# Altium integrated library Linear Technology PMIC-Switching Reg LT1074-LT8705.IntLib: 2252 symbols (part 3 of 124)
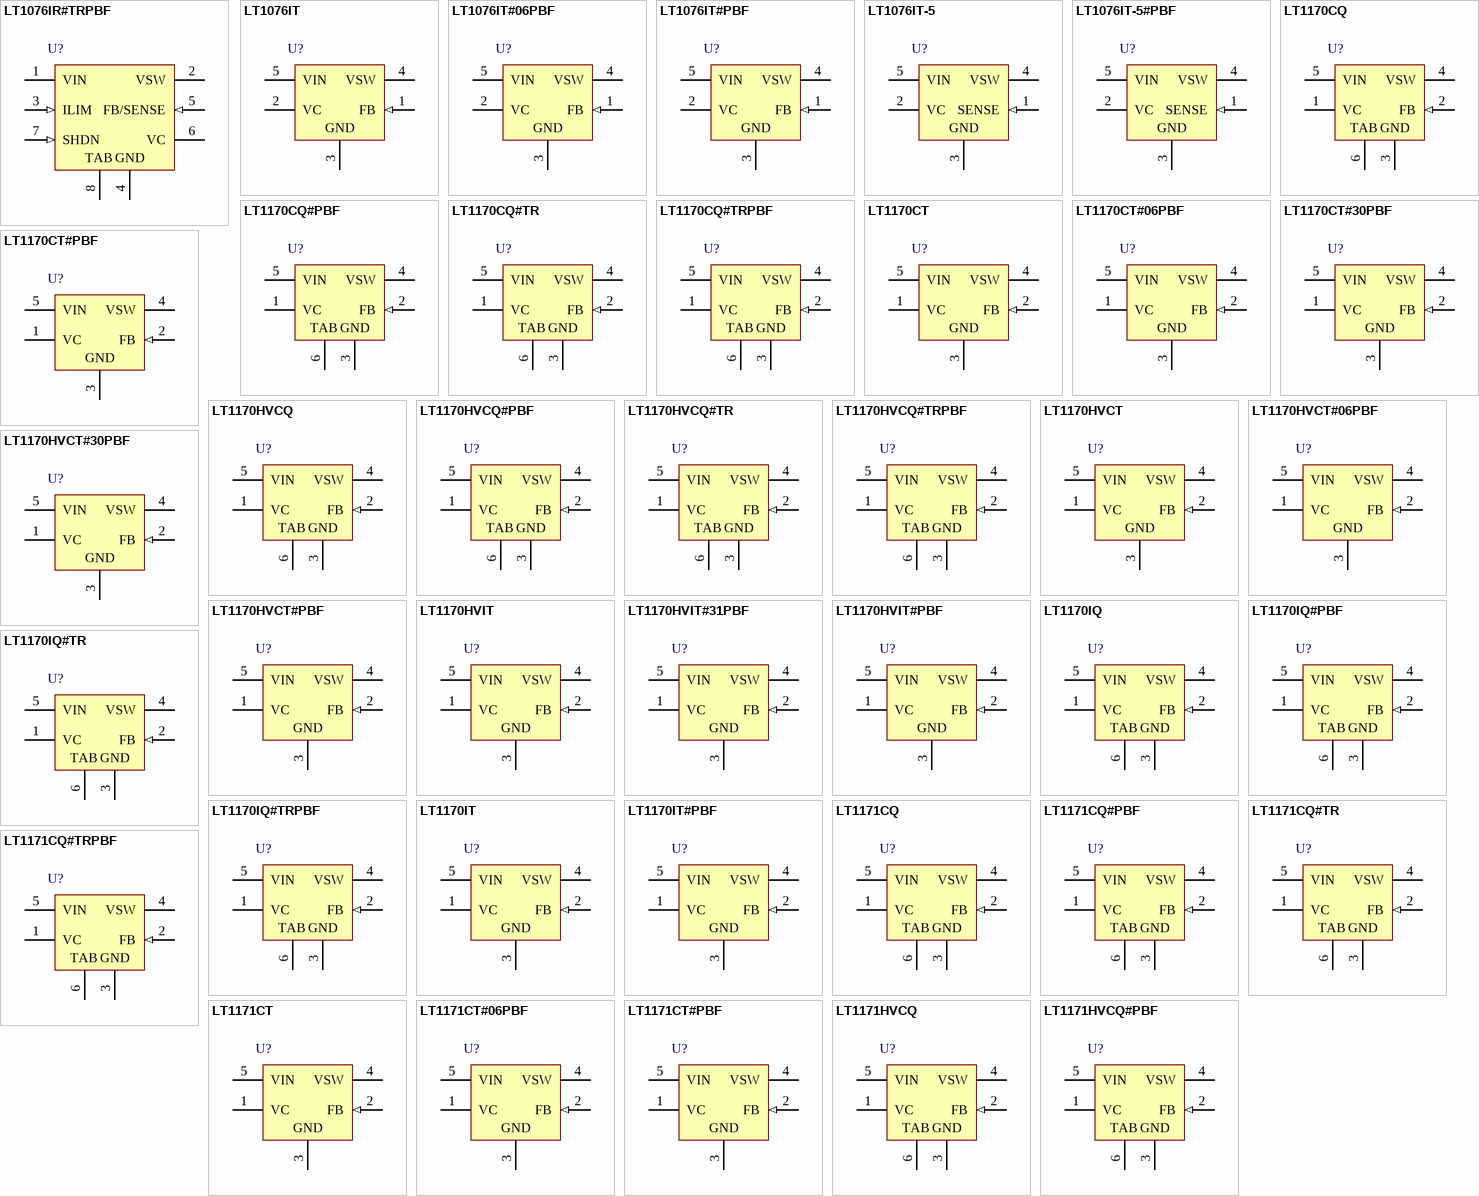
[diagram p73: symbols LT1076IR#TRPBF to LT1171HVCQ#PBF]

## LT1170CT#30PBF
designator U?
100 kHz, 5 A, High Efficiency Switching Regulator, 5-pin FM (T-5), 0 to 100 degC, Pb-Free; Manufacturer: Linear Technology; PartNumber: LT1170CT#30PBF; Number of Outputs: 1; PackageReference: T-5; PackageDescription: 5-Pin Plastic TO-220 (Standard), Body 10.224 x 8.89 mm, Pitch 1.7 mm; Supplier 1: Digi-Key; Supplier Part Number 1: LT1170CT#30PBF-ND; RoHS: TRUE
footprint LT-T-5-S (FM, 5-Leads, Body 10.55x4.6mm, Pitch 1.7mm)
pins: 1 VC, 2 FB (in), 3 GND (power), 4 VSW (power), 5 VIN (power)

## LT1170CT#PBF
designator U?
100 kHz, 5 A, High Efficiency Switching Regulator, 5-pin FM (T-5), 0 to 100 degC, Pb-Free; Manufacturer: Linear Technology; PartNumber: LT1170CT#PBF; Number of Outputs: 1; PackageReference: T-5; PackageDescription: 5-Pin Plastic TO-220 (Standard), Body 10.224 x 8.89 mm, Pitch 1.7 mm; Supplier 1: Digi-Key; Supplier Part Number 1: LT1170CT#PBF-ND; RoHS: TRUE
footprint LT-T-5-S (FM, 5-Leads, Body 10.55x4.6mm, Pitch 1.7mm)
pins: 1 VC, 2 FB (in), 3 GND (power), 4 VSW (power), 5 VIN (power)

## LT1170HVCQ
designator U?
100 kHz, 5 A, High Efficiency Switching Regulator, 5-pin DPAK (Q-5), 0 to 100 degC; Manufacturer: Linear Technology; PartNumber: LT1170HVCQ; Number of Outputs: 1; PackageReference: Q-5; PackageDescription: 5-Pin Plastic DD Pak, Body 10.2235 x 8.89 mm, Pitch 1.702 mm; Supplier 1: Digi-Key; Supplier Part Number 1: LT1170HVCQ-ND; RoHS: FALSE
footprint LT-Q-5_N (DPAK, 5-Leads, Body 10.22x8.89mm, Pitch 1.702mm, IPC Medium Density)
footprint LT-Q-5_L (DPAK, 5-Leads, Body 10.22x8.89mm, Pitch 1.702mm, IPC High Density)
footprint LT-Q-5_M (DPAK, 5-Leads, Body 10.22x8.89mm, Pitch 1.702mm, IPC Low Density)
pins: 1 VC, 2 FB (in), 3 GND (power), 4 VSW (power), 5 VIN (power), 6 TAB

## LT1170HVCQ#PBF
designator U?
100 kHz, 5 A, High Efficiency Switching Regulator, 5-pin DPAK (Q-5), 0 to 100 degC, Pb-Free; Manufacturer: Linear Technology; PartNumber: LT1170HVCQ#PBF; Number of Outputs: 1; PackageReference: Q-5; PackageDescription: 5-Pin Plastic DD Pak, Body 10.2235 x 8.89 mm, Pitch 1.702 mm; Supplier 1: Digi-Key; Supplier Part Number 1: LT1170HVCQ#PBF-ND; RoHS: TRUE
footprint LT-Q-5_N (DPAK, 5-Leads, Body 10.22x8.89mm, Pitch 1.702mm, IPC Medium Density)
footprint LT-Q-5_L (DPAK, 5-Leads, Body 10.22x8.89mm, Pitch 1.702mm, IPC High Density)
footprint LT-Q-5_M (DPAK, 5-Leads, Body 10.22x8.89mm, Pitch 1.702mm, IPC Low Density)
pins: 1 VC, 2 FB (in), 3 GND (power), 4 VSW (power), 5 VIN (power), 6 TAB

## LT1170HVCQ#TR
designator U?
100 kHz, 5 A, High Efficiency Switching Regulator, 5-pin DPAK (Q-5), 0 to 100 degC, Tape and Reel; Manufacturer: Linear Technology; PartNumber: LT1170HVCQ#TR; Number of Outputs: 1; PackageReference: Q-5; PackageDescription: 5-Pin Plastic DD Pak, Body 10.2235 x 8.89 mm, Pitch 1.702 mm; Supplier 1: Digi-Key; Supplier Part Number 1: LT1170HVCQTR-ND; RoHS: FALSE
footprint LT-Q-5_N (DPAK, 5-Leads, Body 10.22x8.89mm, Pitch 1.702mm, IPC Medium Density)
footprint LT-Q-5_L (DPAK, 5-Leads, Body 10.22x8.89mm, Pitch 1.702mm, IPC High Density)
footprint LT-Q-5_M (DPAK, 5-Leads, Body 10.22x8.89mm, Pitch 1.702mm, IPC Low Density)
pins: 1 VC, 2 FB (in), 3 GND (power), 4 VSW (power), 5 VIN (power), 6 TAB

## LT1170HVCQ#TRPBF
designator U?
100 kHz, 5 A, High Efficiency Switching Regulator, 5-pin DPAK (Q-5), 0 to 100 degC, Pb-Free, Tape and Reel; Manufacturer: Linear Technology; PartNumber: LT1170HVCQ#TRPBF; Number of Outputs: 1; PackageReference: Q-5; PackageDescription: 5-Pin Plastic DD Pak, Body 10.2235 x 8.89 mm, Pitch 1.702 mm; Supplier 1: Digi-Key; Supplier Part Number 1: LT1170HVCQ#TRPBF-ND; RoHS: TRUE
footprint LT-Q-5_N (DPAK, 5-Leads, Body 10.22x8.89mm, Pitch 1.702mm, IPC Medium Density)
footprint LT-Q-5_L (DPAK, 5-Leads, Body 10.22x8.89mm, Pitch 1.702mm, IPC High Density)
footprint LT-Q-5_M (DPAK, 5-Leads, Body 10.22x8.89mm, Pitch 1.702mm, IPC Low Density)
pins: 1 VC, 2 FB (in), 3 GND (power), 4 VSW (power), 5 VIN (power), 6 TAB

## LT1170HVCT
designator U?
100 kHz, 5 A, High Efficiency Switching Regulator, 5-pin FM (T-5), 0 to 100 degC; Manufacturer: Linear Technology; PartNumber: LT1170HVCT; Number of Outputs: 1; PackageReference: T-5; PackageDescription: 5-Pin Plastic TO-220 (Standard), Body 10.224 x 8.89 mm, Pitch 1.7 mm; Supplier 1: Digi-Key; Supplier Part Number 1: LT1170HVCT-ND; RoHS: FALSE
footprint LT-T-5-S (FM, 5-Leads, Body 10.55x4.6mm, Pitch 1.7mm)
pins: 1 VC, 2 FB (in), 3 GND (power), 4 VSW (power), 5 VIN (power)

## LT1170HVCT#06PBF
designator U?
100 kHz, 5 A, High Efficiency Switching Regulator, 5-pin FM (T-5), 0 to 100 degC, Pb-Free; Manufacturer: Linear Technology; PartNumber: LT1170HVCT#06PBF; Number of Outputs: 1; PackageReference: T-5; PackageDescription: 5-Pin Plastic TO-220 (Standard), Body 10.224 x 8.89 mm, Pitch 1.7 mm; Supplier 1: Digi-Key; Supplier Part Number 1: LT1170HVCT#06PBF-ND; RoHS: TRUE
footprint LT-T-5-S (FM, 5-Leads, Body 10.55x4.6mm, Pitch 1.7mm)
pins: 1 VC, 2 FB (in), 3 GND (power), 4 VSW (power), 5 VIN (power)

## LT1170HVCT#30PBF
designator U?
100 kHz, 5 A, High Efficiency Switching Regulator, 5-pin FM (T-5), 0 to 100 degC, Pb-Free; Manufacturer: Linear Technology; PartNumber: LT1170HVCT#30PBF; Number of Outputs: 1; PackageReference: T-5; PackageDescription: 5-Pin Plastic TO-220 (Standard), Body 10.224 x 8.89 mm, Pitch 1.7 mm; Supplier 1: Digi-Key; Supplier Part Number 1: LT1170HVCT#30PBF-ND; RoHS: TRUE
footprint LT-T-5-S (FM, 5-Leads, Body 10.55x4.6mm, Pitch 1.7mm)
pins: 1 VC, 2 FB (in), 3 GND (power), 4 VSW (power), 5 VIN (power)

## LT1170HVCT#PBF
designator U?
100 kHz, 5 A, High Efficiency Switching Regulator, 5-pin FM (T-5), 0 to 100 degC, Pb-Free; Manufacturer: Linear Technology; PartNumber: LT1170HVCT#PBF; Number of Outputs: 1; PackageReference: T-5; PackageDescription: 5-Pin Plastic TO-220 (Standard), Body 10.224 x 8.89 mm, Pitch 1.7 mm; Supplier 1: Digi-Key; Supplier Part Number 1: LT1170HVCT#PBF-ND; RoHS: TRUE
footprint LT-T-5-S (FM, 5-Leads, Body 10.55x4.6mm, Pitch 1.7mm)
pins: 1 VC, 2 FB (in), 3 GND (power), 4 VSW (power), 5 VIN (power)

## LT1170HVIT
designator U?
100 kHz, 5 A, High Efficiency Switching Regulator, 5-pin FM (T-5), -40 to 100 degC; Manufacturer: Linear Technology; PartNumber: LT1170HVIT; Number of Outputs: 1; PackageReference: T-5; PackageDescription: 5-Pin Plastic TO-220 (Standard), Body 10.224 x 8.89 mm, Pitch 1.7 mm; Supplier 1: Digi-Key; Supplier Part Number 1: LT1170HVIT-ND; RoHS: FALSE
footprint LT-T-5-S (FM, 5-Leads, Body 10.55x4.6mm, Pitch 1.7mm)
pins: 1 VC, 2 FB (in), 3 GND (power), 4 VSW (power), 5 VIN (power)

## LT1170HVIT#31PBF
designator U?
100 kHz, 5 A, High Efficiency Switching Regulator, 5-pin FM (T-5), -40 to 100 degC, Pb-Free; Manufacturer: Linear Technology; PartNumber: LT1170HVIT#31PBF; Number of Outputs: 1; PackageReference: T-5; PackageDescription: 5-Pin Plastic TO-220 (Standard), Body 10.224 x 8.89 mm, Pitch 1.7 mm; Supplier 1: Digi-Key; Supplier Part Number 1: LT1170HVIT#31PBF-ND; RoHS: TRUE
footprint LT-T-5-S (FM, 5-Leads, Body 10.55x4.6mm, Pitch 1.7mm)
pins: 1 VC, 2 FB (in), 3 GND (power), 4 VSW (power), 5 VIN (power)

## LT1170HVIT#PBF
designator U?
100 kHz, 5 A, High Efficiency Switching Regulator, 5-pin FM (T-5), -40 to 100 degC, Pb-Free; Manufacturer: Linear Technology; PartNumber: LT1170HVIT#PBF; Number of Outputs: 1; PackageReference: T-5; PackageDescription: 5-Pin Plastic TO-220 (Standard), Body 10.224 x 8.89 mm, Pitch 1.7 mm; Supplier 1: Digi-Key; Supplier Part Number 1: LT1170HVIT#PBF-ND; RoHS: TRUE
footprint LT-T-5-S (FM, 5-Leads, Body 10.55x4.6mm, Pitch 1.7mm)
pins: 1 VC, 2 FB (in), 3 GND (power), 4 VSW (power), 5 VIN (power)

## LT1170IQ
designator U?
100 kHz, 5 A, High Efficiency Switching Regulator, 5-pin DPAK (Q-5), -40 to 100 degC; Manufacturer: Linear Technology; PartNumber: LT1170IQ; Number of Outputs: 1; PackageReference: Q-5; PackageDescription: 5-Pin Plastic DD Pak, Body 10.2235 x 8.89 mm, Pitch 1.702 mm; Supplier 1: Digi-Key; Supplier Part Number 1: LT1170IQ-ND; RoHS: FALSE
footprint LT-Q-5_N (DPAK, 5-Leads, Body 10.22x8.89mm, Pitch 1.702mm, IPC Medium Density)
footprint LT-Q-5_L (DPAK, 5-Leads, Body 10.22x8.89mm, Pitch 1.702mm, IPC High Density)
footprint LT-Q-5_M (DPAK, 5-Leads, Body 10.22x8.89mm, Pitch 1.702mm, IPC Low Density)
pins: 1 VC, 2 FB (in), 3 GND (power), 4 VSW (power), 5 VIN (power), 6 TAB

## LT1170IQ#PBF
designator U?
100 kHz, 5 A, High Efficiency Switching Regulator, 5-pin DPAK (Q-5), -40 to 100 degC, Pb-Free; Manufacturer: Linear Technology; PartNumber: LT1170IQ#PBF; Number of Outputs: 1; PackageReference: Q-5; PackageDescription: 5-Pin Plastic DD Pak, Body 10.2235 x 8.89 mm, Pitch 1.702 mm; Supplier 1: Digi-Key; Supplier Part Number 1: LT1170IQ#PBF-ND; RoHS: TRUE
footprint LT-Q-5_N (DPAK, 5-Leads, Body 10.22x8.89mm, Pitch 1.702mm, IPC Medium Density)
footprint LT-Q-5_L (DPAK, 5-Leads, Body 10.22x8.89mm, Pitch 1.702mm, IPC High Density)
footprint LT-Q-5_M (DPAK, 5-Leads, Body 10.22x8.89mm, Pitch 1.702mm, IPC Low Density)
pins: 1 VC, 2 FB (in), 3 GND (power), 4 VSW (power), 5 VIN (power), 6 TAB

## LT1170IQ#TR
designator U?
100 kHz, 5 A, High Efficiency Switching Regulator, 5-pin DPAK (Q-5), -40 to 100 degC, Tape and Reel; Manufacturer: Linear Technology; PartNumber: LT1170IQ#TR; Number of Outputs: 1; PackageReference: Q-5; PackageDescription: 5-Pin Plastic DD Pak, Body 10.2235 x 8.89 mm, Pitch 1.702 mm; Supplier 1: Digi-Key; Supplier Part Number 1: LT1170IQ#TR-ND; RoHS: FALSE
footprint LT-Q-5_N (DPAK, 5-Leads, Body 10.22x8.89mm, Pitch 1.702mm, IPC Medium Density)
footprint LT-Q-5_L (DPAK, 5-Leads, Body 10.22x8.89mm, Pitch 1.702mm, IPC High Density)
footprint LT-Q-5_M (DPAK, 5-Leads, Body 10.22x8.89mm, Pitch 1.702mm, IPC Low Density)
pins: 1 VC, 2 FB (in), 3 GND (power), 4 VSW (power), 5 VIN (power), 6 TAB

## LT1170IQ#TRPBF
designator U?
100 kHz, 5 A, High Efficiency Switching Regulator, 5-pin DPAK (Q-5), -40 to 100 degC, Pb-Free, Tape and Reel; Manufacturer: Linear Technology; PartNumber: LT1170IQ#TRPBF; Number of Outputs: 1; PackageReference: Q-5; PackageDescription: 5-Pin Plastic DD Pak, Body 10.2235 x 8.89 mm, Pitch 1.702 mm; Supplier 1: Digi-Key; Supplier Part Number 1: LT1170IQ#TRPBF-ND; RoHS: TRUE
footprint LT-Q-5_N (DPAK, 5-Leads, Body 10.22x8.89mm, Pitch 1.702mm, IPC Medium Density)
footprint LT-Q-5_L (DPAK, 5-Leads, Body 10.22x8.89mm, Pitch 1.702mm, IPC High Density)
footprint LT-Q-5_M (DPAK, 5-Leads, Body 10.22x8.89mm, Pitch 1.702mm, IPC Low Density)
pins: 1 VC, 2 FB (in), 3 GND (power), 4 VSW (power), 5 VIN (power), 6 TAB

## LT1170IT
designator U?
100 kHz, 5 A, High Efficiency Switching Regulator, 5-pin FM (T-5), -40 to 100 degC; Manufacturer: Linear Technology; PartNumber: LT1170IT; Number of Outputs: 1; PackageReference: T-5; PackageDescription: 5-Pin Plastic TO-220 (Standard), Body 10.224 x 8.89 mm, Pitch 1.7 mm; Supplier 1: Digi-Key; Supplier Part Number 1: LT1170IT-ND; RoHS: FALSE
footprint LT-T-5-S (FM, 5-Leads, Body 10.55x4.6mm, Pitch 1.7mm)
pins: 1 VC, 2 FB (in), 3 GND (power), 4 VSW (power), 5 VIN (power)

## LT1170IT#PBF
designator U?
100 kHz, 5 A, High Efficiency Switching Regulator, 5-pin FM (T-5), -40 to 100 degC, Pb-Free; Manufacturer: Linear Technology; PartNumber: LT1170IT#PBF; Number of Outputs: 1; PackageReference: T-5; PackageDescription: 5-Pin Plastic TO-220 (Standard), Body 10.224 x 8.89 mm, Pitch 1.7 mm; Supplier 1: Digi-Key; Supplier Part Number 1: LT1170IT#PBF-ND; RoHS: TRUE
footprint LT-T-5-S (FM, 5-Leads, Body 10.55x4.6mm, Pitch 1.7mm)
pins: 1 VC, 2 FB (in), 3 GND (power), 4 VSW (power), 5 VIN (power)

## LT1171CQ
designator U?
100 kHz, 2.5 A, High Efficiency Switching Regulator, 5-pin DPAK (Q-5), 0 to 100 degC; Manufacturer: Linear Technology; PartNumber: LT1171CQ; Number of Outputs: 1; PackageReference: Q-5; PackageDescription: 5-Pin Plastic DD Pak, Body 10.2235 x 8.89 mm, Pitch 1.702 mm; Supplier 1: Digi-Key; Supplier Part Number 1: LT1171CQ-ND; RoHS: FALSE
footprint LT-Q-5_N (DPAK, 5-Leads, Body 10.22x8.89mm, Pitch 1.702mm, IPC Medium Density)
footprint LT-Q-5_L (DPAK, 5-Leads, Body 10.22x8.89mm, Pitch 1.702mm, IPC High Density)
footprint LT-Q-5_M (DPAK, 5-Leads, Body 10.22x8.89mm, Pitch 1.702mm, IPC Low Density)
pins: 1 VC, 2 FB (in), 3 GND (power), 4 VSW (power), 5 VIN (power), 6 TAB

## LT1171CQ#PBF
designator U?
100 kHz, 2.5 A, High Efficiency Switching Regulator, 5-pin DPAK (Q-5), 0 to 100 degC, Pb-Free; Manufacturer: Linear Technology; PartNumber: LT1171CQ#PBF; Number of Outputs: 1; PackageReference: Q-5; PackageDescription: 5-Pin Plastic DD Pak, Body 10.2235 x 8.89 mm, Pitch 1.702 mm; Supplier 1: Digi-Key; Supplier Part Number 1: LT1171CQ#PBF-ND; RoHS: TRUE
footprint LT-Q-5_N (DPAK, 5-Leads, Body 10.22x8.89mm, Pitch 1.702mm, IPC Medium Density)
footprint LT-Q-5_L (DPAK, 5-Leads, Body 10.22x8.89mm, Pitch 1.702mm, IPC High Density)
footprint LT-Q-5_M (DPAK, 5-Leads, Body 10.22x8.89mm, Pitch 1.702mm, IPC Low Density)
pins: 1 VC, 2 FB (in), 3 GND (power), 4 VSW (power), 5 VIN (power), 6 TAB

## LT1171CQ#TR
designator U?
100 kHz, 2.5 A, High Efficiency Switching Regulator, 5-pin DPAK (Q-5), 0 to 100 degC, Tape and Reel; Manufacturer: Linear Technology; PartNumber: LT1171CQ#TR; Number of Outputs: 1; PackageReference: Q-5; PackageDescription: 5-Pin Plastic DD Pak, Body 10.2235 x 8.89 mm, Pitch 1.702 mm; Supplier 1: Digi-Key; Supplier Part Number 1: LT1171CQ#TR-ND; RoHS: FALSE
footprint LT-Q-5_N (DPAK, 5-Leads, Body 10.22x8.89mm, Pitch 1.702mm, IPC Medium Density)
footprint LT-Q-5_L (DPAK, 5-Leads, Body 10.22x8.89mm, Pitch 1.702mm, IPC High Density)
footprint LT-Q-5_M (DPAK, 5-Leads, Body 10.22x8.89mm, Pitch 1.702mm, IPC Low Density)
pins: 1 VC, 2 FB (in), 3 GND (power), 4 VSW (power), 5 VIN (power), 6 TAB

## LT1171CQ#TRPBF
designator U?
100 kHz, 2.5 A, High Efficiency Switching Regulator, 5-pin DPAK (Q-5), 0 to 100 degC, Pb-Free, Tape and Reel; Manufacturer: Linear Technology; PartNumber: LT1171CQ#TRPBF; Number of Outputs: 1; PackageReference: Q-5; PackageDescription: 5-Pin Plastic DD Pak, Body 10.2235 x 8.89 mm, Pitch 1.702 mm; Supplier 1: Digi-Key; Supplier Part Number 1: LT1171CQ#TRPBF-ND; RoHS: TRUE
footprint LT-Q-5_N (DPAK, 5-Leads, Body 10.22x8.89mm, Pitch 1.702mm, IPC Medium Density)
footprint LT-Q-5_L (DPAK, 5-Leads, Body 10.22x8.89mm, Pitch 1.702mm, IPC High Density)
footprint LT-Q-5_M (DPAK, 5-Leads, Body 10.22x8.89mm, Pitch 1.702mm, IPC Low Density)
pins: 1 VC, 2 FB (in), 3 GND (power), 4 VSW (power), 5 VIN (power), 6 TAB

## LT1171CT
designator U?
100 kHz, 2.5 A, High Efficiency Switching Regulator, 5-pin FM (T-5), 0 to 100 degC; Manufacturer: Linear Technology; PartNumber: LT1171CT; Number of Outputs: 1; PackageReference: T-5; PackageDescription: 5-Pin Plastic TO-220 (Standard), Body 10.224 x 8.89 mm, Pitch 1.7 mm; Supplier 1: Digi-Key; Supplier Part Number 1: LT1171CT-ND; RoHS: FALSE
footprint LT-T-5-S (FM, 5-Leads, Body 10.55x4.6mm, Pitch 1.7mm)
pins: 1 VC, 2 FB (in), 3 GND (power), 4 VSW (power), 5 VIN (power)

## LT1171CT#06PBF
designator U?
100 kHz, 2.5 A, High Efficiency Switching Regulator, 5-pin FM (T-5), 0 to 100 degC, Pb-Free; Manufacturer: Linear Technology; PartNumber: LT1171CT#06PBF; Number of Outputs: 1; PackageReference: T-5; PackageDescription: 5-Pin Plastic TO-220 (Standard), Body 10.224 x 8.89 mm, Pitch 1.7 mm; Supplier 1: Digi-Key; Supplier Part Number 1: LT1171CT#06PBF-ND; RoHS: TRUE
footprint LT-T-5-S (FM, 5-Leads, Body 10.55x4.6mm, Pitch 1.7mm)
pins: 1 VC, 2 FB (in), 3 GND (power), 4 VSW (power), 5 VIN (power)

## LT1171CT#PBF
designator U?
100 kHz, 2.5 A, High Efficiency Switching Regulator, 5-pin FM (T-5), 0 to 100 degC, Pb-Free; Manufacturer: Linear Technology; PartNumber: LT1171CT#PBF; Number of Outputs: 1; PackageReference: T-5; PackageDescription: 5-Pin Plastic TO-220 (Standard), Body 10.224 x 8.89 mm, Pitch 1.7 mm; Supplier 1: Digi-Key; Supplier Part Number 1: LT1171CT#PBF-ND; RoHS: TRUE
footprint LT-T-5-S (FM, 5-Leads, Body 10.55x4.6mm, Pitch 1.7mm)
pins: 1 VC, 2 FB (in), 3 GND (power), 4 VSW (power), 5 VIN (power)

## LT1171HVCQ
designator U?
100 kHz, 2.5 A, High Efficiency Switching Regulator, 5-pin DPAK (Q-5), 0 to 100 degC; Manufacturer: Linear Technology; PartNumber: LT1171HVCQ; Number of Outputs: 1; PackageReference: Q-5; PackageDescription: 5-Pin Plastic DD Pak, Body 10.2235 x 8.89 mm, Pitch 1.702 mm; Supplier 1: Digi-Key; Supplier Part Number 1: LT1171HVCQ-ND; RoHS: FALSE
footprint LT-Q-5_N (DPAK, 5-Leads, Body 10.22x8.89mm, Pitch 1.702mm, IPC Medium Density)
footprint LT-Q-5_L (DPAK, 5-Leads, Body 10.22x8.89mm, Pitch 1.702mm, IPC High Density)
footprint LT-Q-5_M (DPAK, 5-Leads, Body 10.22x8.89mm, Pitch 1.702mm, IPC Low Density)
pins: 1 VC, 2 FB (in), 3 GND (power), 4 VSW (power), 5 VIN (power), 6 TAB

## LT1171HVCQ#PBF
designator U?
100 kHz, 2.5 A, High Efficiency Switching Regulator, 5-pin DPAK (Q-5), 0 to 100 degC, Pb-Free; Manufacturer: Linear Technology; PartNumber: LT1171HVCQ#PBF; Number of Outputs: 1; PackageReference: Q-5; PackageDescription: 5-Pin Plastic DD Pak, Body 10.2235 x 8.89 mm, Pitch 1.702 mm; Supplier 1: Digi-Key; Supplier Part Number 1: LT1171HVCQ#PBF-ND; RoHS: TRUE
footprint LT-Q-5_N (DPAK, 5-Leads, Body 10.22x8.89mm, Pitch 1.702mm, IPC Medium Density)
footprint LT-Q-5_L (DPAK, 5-Leads, Body 10.22x8.89mm, Pitch 1.702mm, IPC High Density)
footprint LT-Q-5_M (DPAK, 5-Leads, Body 10.22x8.89mm, Pitch 1.702mm, IPC Low Density)
pins: 1 VC, 2 FB (in), 3 GND (power), 4 VSW (power), 5 VIN (power), 6 TAB

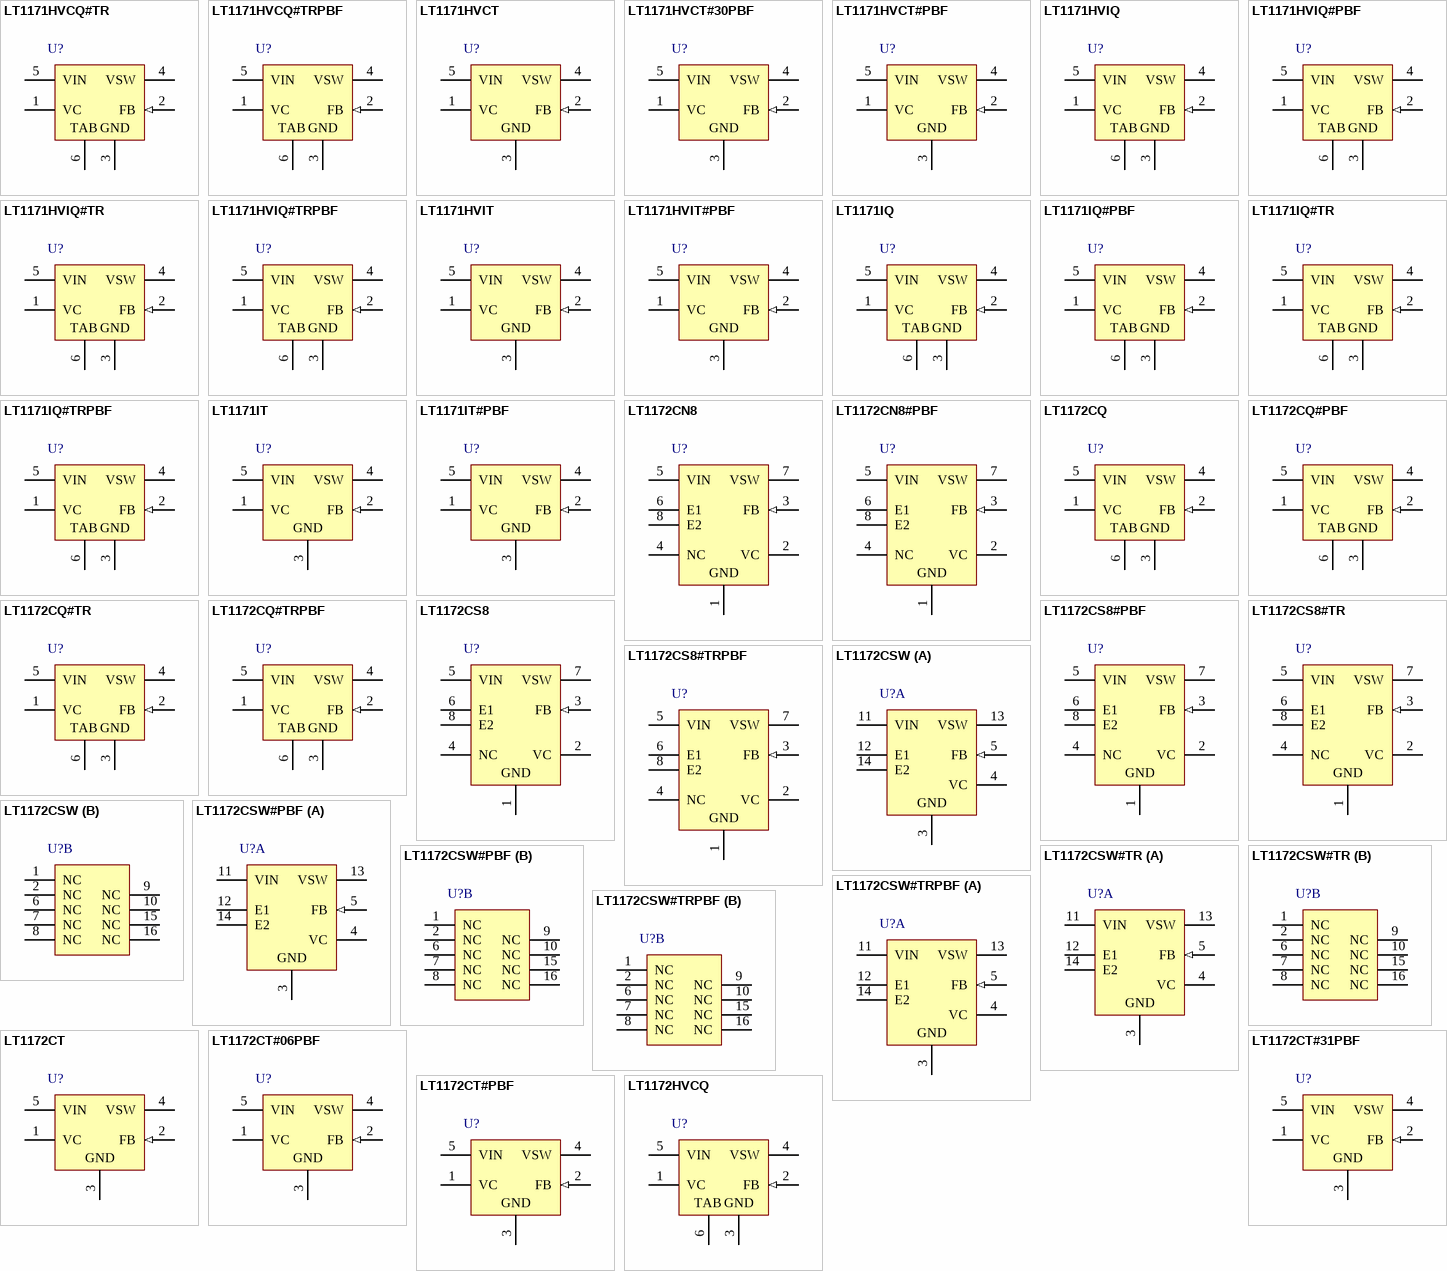
[diagram p3: symbols LT1171HVCQ#TR to LT1172HVCQ]

## LT1171HVCQ#TR
designator U?
100 kHz, 2.5 A, High Efficiency Switching Regulator, 5-pin DPAK (Q-5), 0 to 100 degC, Tape and Reel; Manufacturer: Linear Technology; PartNumber: LT1171HVCQ#TR; Number of Outputs: 1; PackageReference: Q-5; PackageDescription: 5-Pin Plastic DD Pak, Body 10.2235 x 8.89 mm, Pitch 1.702 mm; Supplier 1: Digi-Key; Supplier Part Number 1: LT1171HVCQ#TR-ND; RoHS: FALSE
footprint LT-Q-5_N (DPAK, 5-Leads, Body 10.22x8.89mm, Pitch 1.702mm, IPC Medium Density)
footprint LT-Q-5_L (DPAK, 5-Leads, Body 10.22x8.89mm, Pitch 1.702mm, IPC High Density)
footprint LT-Q-5_M (DPAK, 5-Leads, Body 10.22x8.89mm, Pitch 1.702mm, IPC Low Density)
pins: 1 VC, 2 FB (in), 3 GND (power), 4 VSW (power), 5 VIN (power), 6 TAB

## LT1171HVCQ#TRPBF
designator U?
100 kHz, 2.5 A, High Efficiency Switching Regulator, 5-pin DPAK (Q-5), 0 to 100 degC, Pb-Free, Tape and Reel; Manufacturer: Linear Technology; PartNumber: LT1171HVCQ#TRPBF; Number of Outputs: 1; PackageReference: Q-5; PackageDescription: 5-Pin Plastic DD Pak, Body 10.2235 x 8.89 mm, Pitch 1.702 mm; Supplier 1: Digi-Key; Supplier Part Number 1: LT1171HVCQ#TRPBF-ND; RoHS: TRUE
footprint LT-Q-5_N (DPAK, 5-Leads, Body 10.22x8.89mm, Pitch 1.702mm, IPC Medium Density)
footprint LT-Q-5_L (DPAK, 5-Leads, Body 10.22x8.89mm, Pitch 1.702mm, IPC High Density)
footprint LT-Q-5_M (DPAK, 5-Leads, Body 10.22x8.89mm, Pitch 1.702mm, IPC Low Density)
pins: 1 VC, 2 FB (in), 3 GND (power), 4 VSW (power), 5 VIN (power), 6 TAB

## LT1171HVCT
designator U?
100 kHz, 2.5 A, High Efficiency Switching Regulator, 5-pin FM (T-5), 0 to 100 degC; Manufacturer: Linear Technology; PartNumber: LT1171HVCT; Number of Outputs: 1; PackageReference: T-5; PackageDescription: 5-Pin Plastic TO-220 (Standard), Body 10.224 x 8.89 mm, Pitch 1.7 mm; Supplier 1: Digi-Key; Supplier Part Number 1: LT1171HVCT-ND; RoHS: FALSE
footprint LT-T-5-S (FM, 5-Leads, Body 10.55x4.6mm, Pitch 1.7mm)
pins: 1 VC, 2 FB (in), 3 GND (power), 4 VSW (power), 5 VIN (power)

## LT1171HVCT#30PBF
designator U?
100 kHz, 2.5 A, High Efficiency Switching Regulator, 5-pin FM (T-5), 0 to 100 degC, Pb-Free; Manufacturer: Linear Technology; PartNumber: LT1171HVCT#30PBF; Number of Outputs: 1; PackageReference: T-5; PackageDescription: 5-Pin Plastic TO-220 (Standard), Body 10.224 x 8.89 mm, Pitch 1.7 mm; Supplier 1: Digi-Key; Supplier Part Number 1: LT1171HVCT#30PBF-ND; RoHS: TRUE
footprint LT-T-5-S (FM, 5-Leads, Body 10.55x4.6mm, Pitch 1.7mm)
pins: 1 VC, 2 FB (in), 3 GND (power), 4 VSW (power), 5 VIN (power)

## LT1171HVCT#PBF
designator U?
100 kHz, 2.5 A, High Efficiency Switching Regulator, 5-pin FM (T-5), 0 to 100 degC, Pb-Free; Manufacturer: Linear Technology; PartNumber: LT1171HVCT#PBF; Number of Outputs: 1; PackageReference: T-5; PackageDescription: 5-Pin Plastic TO-220 (Standard), Body 10.224 x 8.89 mm, Pitch 1.7 mm; Supplier 1: Digi-Key; Supplier Part Number 1: LT1171HVCT#PBF-ND; RoHS: TRUE
footprint LT-T-5-S (FM, 5-Leads, Body 10.55x4.6mm, Pitch 1.7mm)
pins: 1 VC, 2 FB (in), 3 GND (power), 4 VSW (power), 5 VIN (power)

## LT1171HVIQ
designator U?
100 kHz, 2.5 A, High Efficiency Switching Regulator, 5-pin DPAK (Q-5), -40 to 100 degC; Manufacturer: Linear Technology; PartNumber: LT1171HVIQ; Number of Outputs: 1; PackageReference: Q-5; PackageDescription: 5-Pin Plastic DD Pak, Body 10.2235 x 8.89 mm, Pitch 1.702 mm; Supplier 1: Digi-Key; Supplier Part Number 1: LT1171HVIQ-ND; RoHS: FALSE
footprint LT-Q-5_N (DPAK, 5-Leads, Body 10.22x8.89mm, Pitch 1.702mm, IPC Medium Density)
footprint LT-Q-5_L (DPAK, 5-Leads, Body 10.22x8.89mm, Pitch 1.702mm, IPC High Density)
footprint LT-Q-5_M (DPAK, 5-Leads, Body 10.22x8.89mm, Pitch 1.702mm, IPC Low Density)
pins: 1 VC, 2 FB (in), 3 GND (power), 4 VSW (power), 5 VIN (power), 6 TAB

## LT1171HVIQ#PBF
designator U?
100 kHz, 2.5 A, High Efficiency Switching Regulator, 5-pin DPAK (Q-5), -40 to 100 degC, Pb-Free; Manufacturer: Linear Technology; PartNumber: LT1171HVIQ#PBF; Number of Outputs: 1; PackageReference: Q-5; PackageDescription: 5-Pin Plastic DD Pak, Body 10.2235 x 8.89 mm, Pitch 1.702 mm; Supplier 1: Digi-Key; Supplier Part Number 1: LT1171HVIQ#PBF-ND; RoHS: TRUE
footprint LT-Q-5_N (DPAK, 5-Leads, Body 10.22x8.89mm, Pitch 1.702mm, IPC Medium Density)
footprint LT-Q-5_L (DPAK, 5-Leads, Body 10.22x8.89mm, Pitch 1.702mm, IPC High Density)
footprint LT-Q-5_M (DPAK, 5-Leads, Body 10.22x8.89mm, Pitch 1.702mm, IPC Low Density)
pins: 1 VC, 2 FB (in), 3 GND (power), 4 VSW (power), 5 VIN (power), 6 TAB

## LT1171HVIQ#TR
designator U?
100 kHz, 2.5 A, High Efficiency Switching Regulator, 5-pin DPAK (Q-5), -40 to 100 degC, Tape and Reel; Manufacturer: Linear Technology; PartNumber: LT1171HVIQ#TR; Number of Outputs: 1; PackageReference: Q-5; PackageDescription: 5-Pin Plastic DD Pak, Body 10.2235 x 8.89 mm, Pitch 1.702 mm; Supplier 1: Digi-Key; Supplier Part Number 1: LT1171HVIQ#TR-ND; RoHS: FALSE
footprint LT-Q-5_N (DPAK, 5-Leads, Body 10.22x8.89mm, Pitch 1.702mm, IPC Medium Density)
footprint LT-Q-5_L (DPAK, 5-Leads, Body 10.22x8.89mm, Pitch 1.702mm, IPC High Density)
footprint LT-Q-5_M (DPAK, 5-Leads, Body 10.22x8.89mm, Pitch 1.702mm, IPC Low Density)
pins: 1 VC, 2 FB (in), 3 GND (power), 4 VSW (power), 5 VIN (power), 6 TAB

## LT1171HVIQ#TRPBF
designator U?
100 kHz, 2.5 A, High Efficiency Switching Regulator, 5-pin DPAK (Q-5), -40 to 100 degC, Pb-Free, Tape and Reel; Manufacturer: Linear Technology; PartNumber: LT1171HVIQ#TRPBF; Number of Outputs: 1; PackageReference: Q-5; PackageDescription: 5-Pin Plastic DD Pak, Body 10.2235 x 8.89 mm, Pitch 1.702 mm; Supplier 1: Digi-Key; Supplier Part Number 1: LT1171HVIQ#TRPBF-ND; RoHS: TRUE
footprint LT-Q-5_N (DPAK, 5-Leads, Body 10.22x8.89mm, Pitch 1.702mm, IPC Medium Density)
footprint LT-Q-5_L (DPAK, 5-Leads, Body 10.22x8.89mm, Pitch 1.702mm, IPC High Density)
footprint LT-Q-5_M (DPAK, 5-Leads, Body 10.22x8.89mm, Pitch 1.702mm, IPC Low Density)
pins: 1 VC, 2 FB (in), 3 GND (power), 4 VSW (power), 5 VIN (power), 6 TAB

## LT1171HVIT
designator U?
100 kHz, 2.5 A, High Efficiency Switching Regulator, 5-pin FM (T-5), -40 to 100 degC; Manufacturer: Linear Technology; PartNumber: LT1171HVIT; Number of Outputs: 1; PackageReference: T-5; PackageDescription: 5-Pin Plastic TO-220 (Standard), Body 10.224 x 8.89 mm, Pitch 1.7 mm; Supplier 1: Digi-Key; Supplier Part Number 1: LT1171HVIT-ND; RoHS: FALSE
footprint LT-T-5-S (FM, 5-Leads, Body 10.55x4.6mm, Pitch 1.7mm)
pins: 1 VC, 2 FB (in), 3 GND (power), 4 VSW (power), 5 VIN (power)

## LT1171HVIT#PBF
designator U?
100 kHz, 2.5 A, High Efficiency Switching Regulator, 5-pin FM (T-5), -40 to 100 degC, Pb-Free; Manufacturer: Linear Technology; PartNumber: LT1171HVIT#PBF; Number of Outputs: 1; PackageReference: T-5; PackageDescription: 5-Pin Plastic TO-220 (Standard), Body 10.224 x 8.89 mm, Pitch 1.7 mm; Supplier 1: Digi-Key; Supplier Part Number 1: LT1171HVIT#PBF-ND; RoHS: TRUE
footprint LT-T-5-S (FM, 5-Leads, Body 10.55x4.6mm, Pitch 1.7mm)
pins: 1 VC, 2 FB (in), 3 GND (power), 4 VSW (power), 5 VIN (power)

## LT1171IQ
designator U?
100 kHz, 2.5 A, High Efficiency Switching Regulator, 5-pin DPAK (Q-5), -40 to 100 degC; Manufacturer: Linear Technology; PartNumber: LT1171IQ; Number of Outputs: 1; PackageReference: Q-5; PackageDescription: 5-Pin Plastic DD Pak, Body 10.2235 x 8.89 mm, Pitch 1.702 mm; Supplier 1: Digi-Key; Supplier Part Number 1: LT1171IQ-ND; RoHS: FALSE
footprint LT-Q-5_N (DPAK, 5-Leads, Body 10.22x8.89mm, Pitch 1.702mm, IPC Medium Density)
footprint LT-Q-5_L (DPAK, 5-Leads, Body 10.22x8.89mm, Pitch 1.702mm, IPC High Density)
footprint LT-Q-5_M (DPAK, 5-Leads, Body 10.22x8.89mm, Pitch 1.702mm, IPC Low Density)
pins: 1 VC, 2 FB (in), 3 GND (power), 4 VSW (power), 5 VIN (power), 6 TAB

## LT1171IQ#PBF
designator U?
100 kHz, 2.5 A, High Efficiency Switching Regulator, 5-pin DPAK (Q-5), -40 to 100 degC, Pb-Free; Manufacturer: Linear Technology; PartNumber: LT1171IQ#PBF; Number of Outputs: 1; PackageReference: Q-5; PackageDescription: 5-Pin Plastic DD Pak, Body 10.2235 x 8.89 mm, Pitch 1.702 mm; Supplier 1: Digi-Key; Supplier Part Number 1: LT1171IQ#PBF-ND; RoHS: TRUE
footprint LT-Q-5_N (DPAK, 5-Leads, Body 10.22x8.89mm, Pitch 1.702mm, IPC Medium Density)
footprint LT-Q-5_L (DPAK, 5-Leads, Body 10.22x8.89mm, Pitch 1.702mm, IPC High Density)
footprint LT-Q-5_M (DPAK, 5-Leads, Body 10.22x8.89mm, Pitch 1.702mm, IPC Low Density)
pins: 1 VC, 2 FB (in), 3 GND (power), 4 VSW (power), 5 VIN (power), 6 TAB

## LT1171IQ#TR
designator U?
100 kHz, 2.5 A, High Efficiency Switching Regulator, 5-pin DPAK (Q-5), -40 to 100 degC, Tape and Reel; Manufacturer: Linear Technology; PartNumber: LT1171IQ#TR; Number of Outputs: 1; PackageReference: Q-5; PackageDescription: 5-Pin Plastic DD Pak, Body 10.2235 x 8.89 mm, Pitch 1.702 mm; Supplier 1: Digi-Key; Supplier Part Number 1: LT1171IQ#TR-ND; RoHS: FALSE
footprint LT-Q-5_N (DPAK, 5-Leads, Body 10.22x8.89mm, Pitch 1.702mm, IPC Medium Density)
footprint LT-Q-5_L (DPAK, 5-Leads, Body 10.22x8.89mm, Pitch 1.702mm, IPC High Density)
footprint LT-Q-5_M (DPAK, 5-Leads, Body 10.22x8.89mm, Pitch 1.702mm, IPC Low Density)
pins: 1 VC, 2 FB (in), 3 GND (power), 4 VSW (power), 5 VIN (power), 6 TAB

## LT1171IQ#TRPBF
designator U?
100 kHz, 2.5 A, High Efficiency Switching Regulator, 5-pin DPAK (Q-5), -40 to 100 degC, Pb-Free, Tape and Reel; Manufacturer: Linear Technology; PartNumber: LT1171IQ#TRPBF; Number of Outputs: 1; PackageReference: Q-5; PackageDescription: 5-Pin Plastic DD Pak, Body 10.2235 x 8.89 mm, Pitch 1.702 mm; Supplier 1: Digi-Key; Supplier Part Number 1: LT1171IQ#TRPBF-ND; RoHS: TRUE
footprint LT-Q-5_N (DPAK, 5-Leads, Body 10.22x8.89mm, Pitch 1.702mm, IPC Medium Density)
footprint LT-Q-5_L (DPAK, 5-Leads, Body 10.22x8.89mm, Pitch 1.702mm, IPC High Density)
footprint LT-Q-5_M (DPAK, 5-Leads, Body 10.22x8.89mm, Pitch 1.702mm, IPC Low Density)
pins: 1 VC, 2 FB (in), 3 GND (power), 4 VSW (power), 5 VIN (power), 6 TAB

## LT1171IT
designator U?
100 kHz, 2.5 A, High Efficiency Switching Regulator, 5-pin FM (T-5), -40 to 100 degC; Manufacturer: Linear Technology; PartNumber: LT1171IT; Number of Outputs: 1; PackageReference: T-5; PackageDescription: 5-Pin Plastic TO-220 (Standard), Body 10.224 x 8.89 mm, Pitch 1.7 mm; Supplier 1: Digi-Key; Supplier Part Number 1: LT1171IT-ND; RoHS: FALSE
footprint LT-T-5-S (FM, 5-Leads, Body 10.55x4.6mm, Pitch 1.7mm)
pins: 1 VC, 2 FB (in), 3 GND (power), 4 VSW (power), 5 VIN (power)

## LT1171IT#PBF
designator U?
100 kHz, 2.5 A, High Efficiency Switching Regulator, 5-pin FM (T-5), -40 to 100 degC, Pb-Free; Manufacturer: Linear Technology; PartNumber: LT1171IT#PBF; Number of Outputs: 1; PackageReference: T-5; PackageDescription: 5-Pin Plastic TO-220 (Standard), Body 10.224 x 8.89 mm, Pitch 1.7 mm; Supplier 1: Digi-Key; Supplier Part Number 1: LT1171IT#PBF-ND; RoHS: TRUE
footprint LT-T-5-S (FM, 5-Leads, Body 10.55x4.6mm, Pitch 1.7mm)
pins: 1 VC, 2 FB (in), 3 GND (power), 4 VSW (power), 5 VIN (power)

## LT1172CN8
designator U?
100 kHz, 1.25 A, High Efficiency Switching Regulator, 8-pin DIP (N8-8), 0 to 100 degC; Manufacturer: Linear Technology; PartNumber: LT1172CN8; Number of Outputs: 1; PackageReference: N8-8; PackageDescription: 8-Pin PDIP, Body 10.16 x 6.48 mm, Pitch 2.54 mm; Supplier 1: Digi-Key; Supplier Part Number 1: LT1172CN8-ND; RoHS: FALSE
footprint LT-N8-8 (DIP, 8-Leads, Body 10.15x6.85mm, Pitch 2.54mm)
pins: 1 GND (power), 2 VC, 3 FB (in), 4 NC, 5 VIN (power), 6 E1, 7 VSW (power), 8 E2

## LT1172CN8#PBF
designator U?
100 kHz, 1.25 A, High Efficiency Switching Regulator, 8-pin DIP (N8-8), 0 to 100 degC, Pb-Free; Manufacturer: Linear Technology; PartNumber: LT1172CN8#PBF; Number of Outputs: 1; PackageReference: N8-8; PackageDescription: 8-Pin PDIP, Body 10.16 x 6.48 mm, Pitch 2.54 mm; Supplier 1: Digi-Key; Supplier Part Number 1: LT1172CN8#PBF-ND; RoHS: TRUE
footprint LT-N8-8 (DIP, 8-Leads, Body 10.15x6.85mm, Pitch 2.54mm)
pins: 1 GND (power), 2 VC, 3 FB (in), 4 NC, 5 VIN (power), 6 E1, 7 VSW (power), 8 E2

## LT1172CQ
designator U?
100 kHz, 1.25 A, High Efficiency Switching Regulator, 5-pin DPAK (Q-5), 0 to 100 degC; Manufacturer: Linear Technology; PartNumber: LT1172CQ; Number of Outputs: 1; PackageReference: Q-5; PackageDescription: 5-Pin Plastic DD Pak, Body 10.2235 x 8.89 mm, Pitch 1.702 mm; Supplier 1: Digi-Key; Supplier Part Number 1: LT1172CQ-ND; RoHS: FALSE
footprint LT-Q-5_N (DPAK, 5-Leads, Body 10.22x8.89mm, Pitch 1.702mm, IPC Medium Density)
footprint LT-Q-5_L (DPAK, 5-Leads, Body 10.22x8.89mm, Pitch 1.702mm, IPC High Density)
footprint LT-Q-5_M (DPAK, 5-Leads, Body 10.22x8.89mm, Pitch 1.702mm, IPC Low Density)
pins: 1 VC, 2 FB (in), 3 GND (power), 4 VSW (power), 5 VIN (power), 6 TAB

## LT1172CQ#PBF
designator U?
100 kHz, 1.25 A, High Efficiency Switching Regulator, 5-pin DPAK (Q-5), 0 to 100 degC, Pb-Free; Manufacturer: Linear Technology; PartNumber: LT1172CQ#PBF; Number of Outputs: 1; PackageReference: Q-5; PackageDescription: 5-Pin Plastic DD Pak, Body 10.2235 x 8.89 mm, Pitch 1.702 mm; Supplier 1: Digi-Key; Supplier Part Number 1: LT1172CQ#PBF-ND; RoHS: TRUE
footprint LT-Q-5_N (DPAK, 5-Leads, Body 10.22x8.89mm, Pitch 1.702mm, IPC Medium Density)
footprint LT-Q-5_L (DPAK, 5-Leads, Body 10.22x8.89mm, Pitch 1.702mm, IPC High Density)
footprint LT-Q-5_M (DPAK, 5-Leads, Body 10.22x8.89mm, Pitch 1.702mm, IPC Low Density)
pins: 1 VC, 2 FB (in), 3 GND (power), 4 VSW (power), 5 VIN (power), 6 TAB

## LT1172CQ#TR
designator U?
100 kHz, 1.25 A, High Efficiency Switching Regulator, 5-pin DPAK (Q-5), 0 to 100 degC, Tape and Reel; Manufacturer: Linear Technology; PartNumber: LT1172CQ#TR; Number of Outputs: 1; PackageReference: Q-5; PackageDescription: 5-Pin Plastic DD Pak, Body 10.2235 x 8.89 mm, Pitch 1.702 mm; Supplier 1: Digi-Key; Supplier Part Number 1: LT1172CQ#TR-ND; RoHS: FALSE
footprint LT-Q-5_N (DPAK, 5-Leads, Body 10.22x8.89mm, Pitch 1.702mm, IPC Medium Density)
footprint LT-Q-5_L (DPAK, 5-Leads, Body 10.22x8.89mm, Pitch 1.702mm, IPC High Density)
footprint LT-Q-5_M (DPAK, 5-Leads, Body 10.22x8.89mm, Pitch 1.702mm, IPC Low Density)
pins: 1 VC, 2 FB (in), 3 GND (power), 4 VSW (power), 5 VIN (power), 6 TAB

## LT1172CQ#TRPBF
designator U?
100 kHz, 1.25 A, High Efficiency Switching Regulator, 5-pin DPAK (Q-5), 0 to 100 degC, Pb-Free, Tape and Reel; Manufacturer: Linear Technology; PartNumber: LT1172CQ#TRPBF; Number of Outputs: 1; PackageReference: Q-5; PackageDescription: 5-Pin Plastic DD Pak, Body 10.2235 x 8.89 mm, Pitch 1.702 mm; Supplier 1: Digi-Key; Supplier Part Number 1: LT1172CQ#TRPBF-ND; RoHS: TRUE
footprint LT-Q-5_N (DPAK, 5-Leads, Body 10.22x8.89mm, Pitch 1.702mm, IPC Medium Density)
footprint LT-Q-5_L (DPAK, 5-Leads, Body 10.22x8.89mm, Pitch 1.702mm, IPC High Density)
footprint LT-Q-5_M (DPAK, 5-Leads, Body 10.22x8.89mm, Pitch 1.702mm, IPC Low Density)
pins: 1 VC, 2 FB (in), 3 GND (power), 4 VSW (power), 5 VIN (power), 6 TAB

## LT1172CS8
designator U?
100 kHz, 1.25 A, High Efficiency Switching Regulator, 8-pin SOIC (S8-8), 0 to 100 degC; Manufacturer: Linear Technology; PartNumber: LT1172CS8; Number of Outputs: 1; PackageReference: S8-8; PackageDescription: 8-Pin Plastic Small Outline (Narrow .150 Inch), Body 4.9 x 3.9 mm, Pitch 1.27 mm; Supplier 1: Digi-Key; Supplier Part Number 1: LT1172CS8-ND; RoHS: FALSE
footprint LT-S8-8_N (SOIC, 8-Leads, Body 5x4mm, Pitch 1.27mm, IPC Medium Density)
footprint LT-S8-8_L (SOIC, 8-Leads, Body 5x4mm, Pitch 1.27mm, IPC High Density)
footprint LT-S8-8_M (SOIC, 8-Leads, Body 5x4mm, Pitch 1.27mm, IPC Low Density)
pins: 1 GND (power), 2 VC, 3 FB (in), 4 NC, 5 VIN (power), 6 E1, 7 VSW (power), 8 E2

## LT1172CS8#PBF
designator U?
100 kHz, 1.25 A, High Efficiency Switching Regulator, 8-pin SOIC (S8-8), 0 to 100 degC, Pb-Free; Manufacturer: Linear Technology; PartNumber: LT1172CS8#PBF; Number of Outputs: 1; PackageReference: S8-8; PackageDescription: 8-Pin Plastic Small Outline (Narrow .150 Inch), Body 4.9 x 3.9 mm, Pitch 1.27 mm; Supplier 1: Digi-Key; Supplier Part Number 1: LT1172CS8#PBF-ND; RoHS: TRUE
footprint LT-S8-8_N (SOIC, 8-Leads, Body 5x4mm, Pitch 1.27mm, IPC Medium Density)
footprint LT-S8-8_L (SOIC, 8-Leads, Body 5x4mm, Pitch 1.27mm, IPC High Density)
footprint LT-S8-8_M (SOIC, 8-Leads, Body 5x4mm, Pitch 1.27mm, IPC Low Density)
pins: 1 GND (power), 2 VC, 3 FB (in), 4 NC, 5 VIN (power), 6 E1, 7 VSW (power), 8 E2

## LT1172CS8#TR
designator U?
100 kHz, 1.25 A, High Efficiency Switching Regulator, 8-pin SOIC (S8-8), 0 to 100 degC, Tape and Reel; Manufacturer: Linear Technology; PartNumber: LT1172CS8#TR; Number of Outputs: 1; PackageReference: S8-8; PackageDescription: 8-Pin Plastic Small Outline (Narrow .150 Inch), Body 4.9 x 3.9 mm, Pitch 1.27 mm; Supplier 1: Digi-Key; Supplier Part Number 1: LT1172CS8TR-ND; RoHS: FALSE
footprint LT-S8-8_N (SOIC, 8-Leads, Body 5x4mm, Pitch 1.27mm, IPC Medium Density)
footprint LT-S8-8_L (SOIC, 8-Leads, Body 5x4mm, Pitch 1.27mm, IPC High Density)
footprint LT-S8-8_M (SOIC, 8-Leads, Body 5x4mm, Pitch 1.27mm, IPC Low Density)
pins: 1 GND (power), 2 VC, 3 FB (in), 4 NC, 5 VIN (power), 6 E1, 7 VSW (power), 8 E2

## LT1172CS8#TRPBF
designator U?
100 kHz, 1.25 A, High Efficiency Switching Regulator, 8-pin SOIC (S8-8), 0 to 100 degC, Pb-Free, Tape and Reel; Manufacturer: Linear Technology; PartNumber: LT1172CS8#TRPBF; Number of Outputs: 1; PackageReference: S8-8; PackageDescription: 8-Pin Plastic Small Outline (Narrow .150 Inch), Body 4.9 x 3.9 mm, Pitch 1.27 mm; Supplier 1: Digi-Key; Supplier Part Number 1: LT1172CS8#TRPBF-ND; RoHS: TRUE
footprint LT-S8-8_N (SOIC, 8-Leads, Body 5x4mm, Pitch 1.27mm, IPC Medium Density)
footprint LT-S8-8_L (SOIC, 8-Leads, Body 5x4mm, Pitch 1.27mm, IPC High Density)
footprint LT-S8-8_M (SOIC, 8-Leads, Body 5x4mm, Pitch 1.27mm, IPC Low Density)
pins: 1 GND (power), 2 VC, 3 FB (in), 4 NC, 5 VIN (power), 6 E1, 7 VSW (power), 8 E2

## LT1172CSW
designator U?
100 kHz, 1.25 A, High Efficiency Switching Regulator, 16-pin SOIC (SW-16), 0 to 100 degC; Manufacturer: Linear Technology; PartNumber: LT1172CSW; Number of Outputs: 1; PackageReference: SW-16; PackageDescription: 16-Pin Plastic Small Outline, Body 10.30 x 7.49 mm, Pitch 1.27 mm; Supplier 1: Digi-Key; Supplier Part Number 1: LT1172CSW-ND; RoHS: FALSE
footprint LT-SW-16_N (SOIC, 16-Leads, Body 10.3x7.49mm, Pitch 1.27mm, IPC Medium Density)
footprint LT-SW-16_L (SOIC, 16-Leads, Body 10.3x7.49mm, Pitch 1.27mm, IPC High Density)
footprint LT-SW-16_M (SOIC, 16-Leads, Body 10.3x7.49mm, Pitch 1.27mm, IPC Low Density)
part A pins: 3 GND (power), 4 VC, 5 FB (in), 11 VIN (power), 12 E1, 13 VSW (power), 14 E2
part B pins: 1 NC, 2 NC, 6 NC, 7 NC, 8 NC, 9 NC, 10 NC, 15 NC, 16 NC

## LT1172CSW#PBF
designator U?
100 kHz, 1.25 A, High Efficiency Switching Regulator, 16-pin SOIC (SW-16), 0 to 100 degC, Pb-Free; Manufacturer: Linear Technology; PartNumber: LT1172CSW#PBF; Number of Outputs: 1; PackageReference: SW-16; PackageDescription: 16-Pin Plastic Small Outline, Body 10.30 x 7.49 mm, Pitch 1.27 mm; Supplier 1: Digi-Key; Supplier Part Number 1: LT1172CSW#PBF-ND; RoHS: TRUE
footprint LT-SW-16_N (SOIC, 16-Leads, Body 10.3x7.49mm, Pitch 1.27mm, IPC Medium Density)
footprint LT-SW-16_L (SOIC, 16-Leads, Body 10.3x7.49mm, Pitch 1.27mm, IPC High Density)
footprint LT-SW-16_M (SOIC, 16-Leads, Body 10.3x7.49mm, Pitch 1.27mm, IPC Low Density)
part A pins: 3 GND (power), 4 VC, 5 FB (in), 11 VIN (power), 12 E1, 13 VSW (power), 14 E2
part B pins: 1 NC, 2 NC, 6 NC, 7 NC, 8 NC, 9 NC, 10 NC, 15 NC, 16 NC

## LT1172CSW#TR
designator U?
100 kHz, 1.25 A, High Efficiency Switching Regulator, 16-pin SOIC (SW-16), 0 to 100 degC, Tape and Reel; Manufacturer: Linear Technology; PartNumber: LT1172CSW#TR; Number of Outputs: 1; PackageReference: SW-16; PackageDescription: 16-Pin Plastic Small Outline, Body 10.30 x 7.49 mm, Pitch 1.27 mm; Supplier 1: Digi-Key; Supplier Part Number 1: LT1172CSW#TR-ND; RoHS: FALSE
footprint LT-SW-16_N (SOIC, 16-Leads, Body 10.3x7.49mm, Pitch 1.27mm, IPC Medium Density)
footprint LT-SW-16_L (SOIC, 16-Leads, Body 10.3x7.49mm, Pitch 1.27mm, IPC High Density)
footprint LT-SW-16_M (SOIC, 16-Leads, Body 10.3x7.49mm, Pitch 1.27mm, IPC Low Density)
part A pins: 3 GND (power), 4 VC, 5 FB (in), 11 VIN (power), 12 E1, 13 VSW (power), 14 E2
part B pins: 1 NC, 2 NC, 6 NC, 7 NC, 8 NC, 9 NC, 10 NC, 15 NC, 16 NC

## LT1172CSW#TRPBF
designator U?
100 kHz, 1.25 A, High Efficiency Switching Regulator, 16-pin SOIC (SW-16), 0 to 100 degC, Pb-Free, Tape and Reel; Manufacturer: Linear Technology; PartNumber: LT1172CSW#TRPBF; Number of Outputs: 1; PackageReference: SW-16; PackageDescription: 16-Pin Plastic Small Outline, Body 10.30 x 7.49 mm, Pitch 1.27 mm; Supplier 1: Digi-Key; Supplier Part Number 1: LT1172CSW#TRPBF-ND; RoHS: TRUE
footprint LT-SW-16_N (SOIC, 16-Leads, Body 10.3x7.49mm, Pitch 1.27mm, IPC Medium Density)
footprint LT-SW-16_L (SOIC, 16-Leads, Body 10.3x7.49mm, Pitch 1.27mm, IPC High Density)
footprint LT-SW-16_M (SOIC, 16-Leads, Body 10.3x7.49mm, Pitch 1.27mm, IPC Low Density)
part A pins: 3 GND (power), 4 VC, 5 FB (in), 11 VIN (power), 12 E1, 13 VSW (power), 14 E2
part B pins: 1 NC, 2 NC, 6 NC, 7 NC, 8 NC, 9 NC, 10 NC, 15 NC, 16 NC

## LT1172CT
designator U?
100 kHz, 1.25 A, High Efficiency Switching Regulator, 5-pin FM (T-5), 0 to 100 degC; Manufacturer: Linear Technology; PartNumber: LT1172CT; Number of Outputs: 1; PackageReference: T-5; PackageDescription: 5-Pin Plastic TO-220 (Standard), Body 10.224 x 8.89 mm, Pitch 1.7 mm; Supplier 1: Digi-Key; Supplier Part Number 1: LT1172CT-ND; RoHS: FALSE
footprint LT-T-5-S (FM, 5-Leads, Body 10.55x4.6mm, Pitch 1.7mm)
pins: 1 VC, 2 FB (in), 3 GND (power), 4 VSW (power), 5 VIN (power)

## LT1172CT#06PBF
designator U?
100 kHz, 1.25 A, High Efficiency Switching Regulator, 5-pin FM (T-5), 0 to 100 degC, Pb-Free; Manufacturer: Linear Technology; PartNumber: LT1172CT#06PBF; Number of Outputs: 1; PackageReference: T-5; PackageDescription: 5-Pin Plastic TO-220 (Standard), Body 10.224 x 8.89 mm, Pitch 1.7 mm; Supplier 1: Digi-Key; Supplier Part Number 1: LT1172CT#06PBF-ND; RoHS: TRUE
footprint LT-T-5-S (FM, 5-Leads, Body 10.55x4.6mm, Pitch 1.7mm)
pins: 1 VC, 2 FB (in), 3 GND (power), 4 VSW (power), 5 VIN (power)

## LT1172CT#31PBF
designator U?
100 kHz, 1.25 A, High Efficiency Switching Regulator, 5-pin FM (T-5), 0 to 100 degC, Pb-Free; Manufacturer: Linear Technology; PartNumber: LT1172CT#31PBF; Number of Outputs: 1; PackageReference: T-5; PackageDescription: 5-Pin Plastic TO-220 (Standard), Body 10.224 x 8.89 mm, Pitch 1.7 mm; Supplier 1: Digi-Key; Supplier Part Number 1: LT1172CT#31PBF-ND; RoHS: TRUE
footprint LT-T-5-S (FM, 5-Leads, Body 10.55x4.6mm, Pitch 1.7mm)
pins: 1 VC, 2 FB (in), 3 GND (power), 4 VSW (power), 5 VIN (power)

## LT1172CT#PBF
designator U?
100 kHz, 1.25 A, High Efficiency Switching Regulator, 5-pin FM (T-5), 0 to 100 degC, Pb-Free; Manufacturer: Linear Technology; PartNumber: LT1172CT#PBF; Number of Outputs: 1; PackageReference: T-5; PackageDescription: 5-Pin Plastic TO-220 (Standard), Body 10.224 x 8.89 mm, Pitch 1.7 mm; Supplier 1: Digi-Key; Supplier Part Number 1: LT1172CT#PBF-ND; RoHS: TRUE
footprint LT-T-5-S (FM, 5-Leads, Body 10.55x4.6mm, Pitch 1.7mm)
pins: 1 VC, 2 FB (in), 3 GND (power), 4 VSW (power), 5 VIN (power)

## LT1172HVCQ
designator U?
100 kHz, 1.25 A, High Efficiency Switching Regulator, 5-pin DPAK (Q-5), 0 to 100 degC; Manufacturer: Linear Technology; PartNumber: LT1172HVCQ; Number of Outputs: 1; PackageReference: Q-5; PackageDescription: 5-Pin Plastic DD Pak, Body 10.2235 x 8.89 mm, Pitch 1.702 mm; Supplier 1: Digi-Key; Supplier Part Number 1: LT1172HVCQ-ND; RoHS: FALSE
footprint LT-Q-5_N (DPAK, 5-Leads, Body 10.22x8.89mm, Pitch 1.702mm, IPC Medium Density)
footprint LT-Q-5_L (DPAK, 5-Leads, Body 10.22x8.89mm, Pitch 1.702mm, IPC High Density)
footprint LT-Q-5_M (DPAK, 5-Leads, Body 10.22x8.89mm, Pitch 1.702mm, IPC Low Density)
pins: 1 VC, 2 FB (in), 3 GND (power), 4 VSW (power), 5 VIN (power), 6 TAB

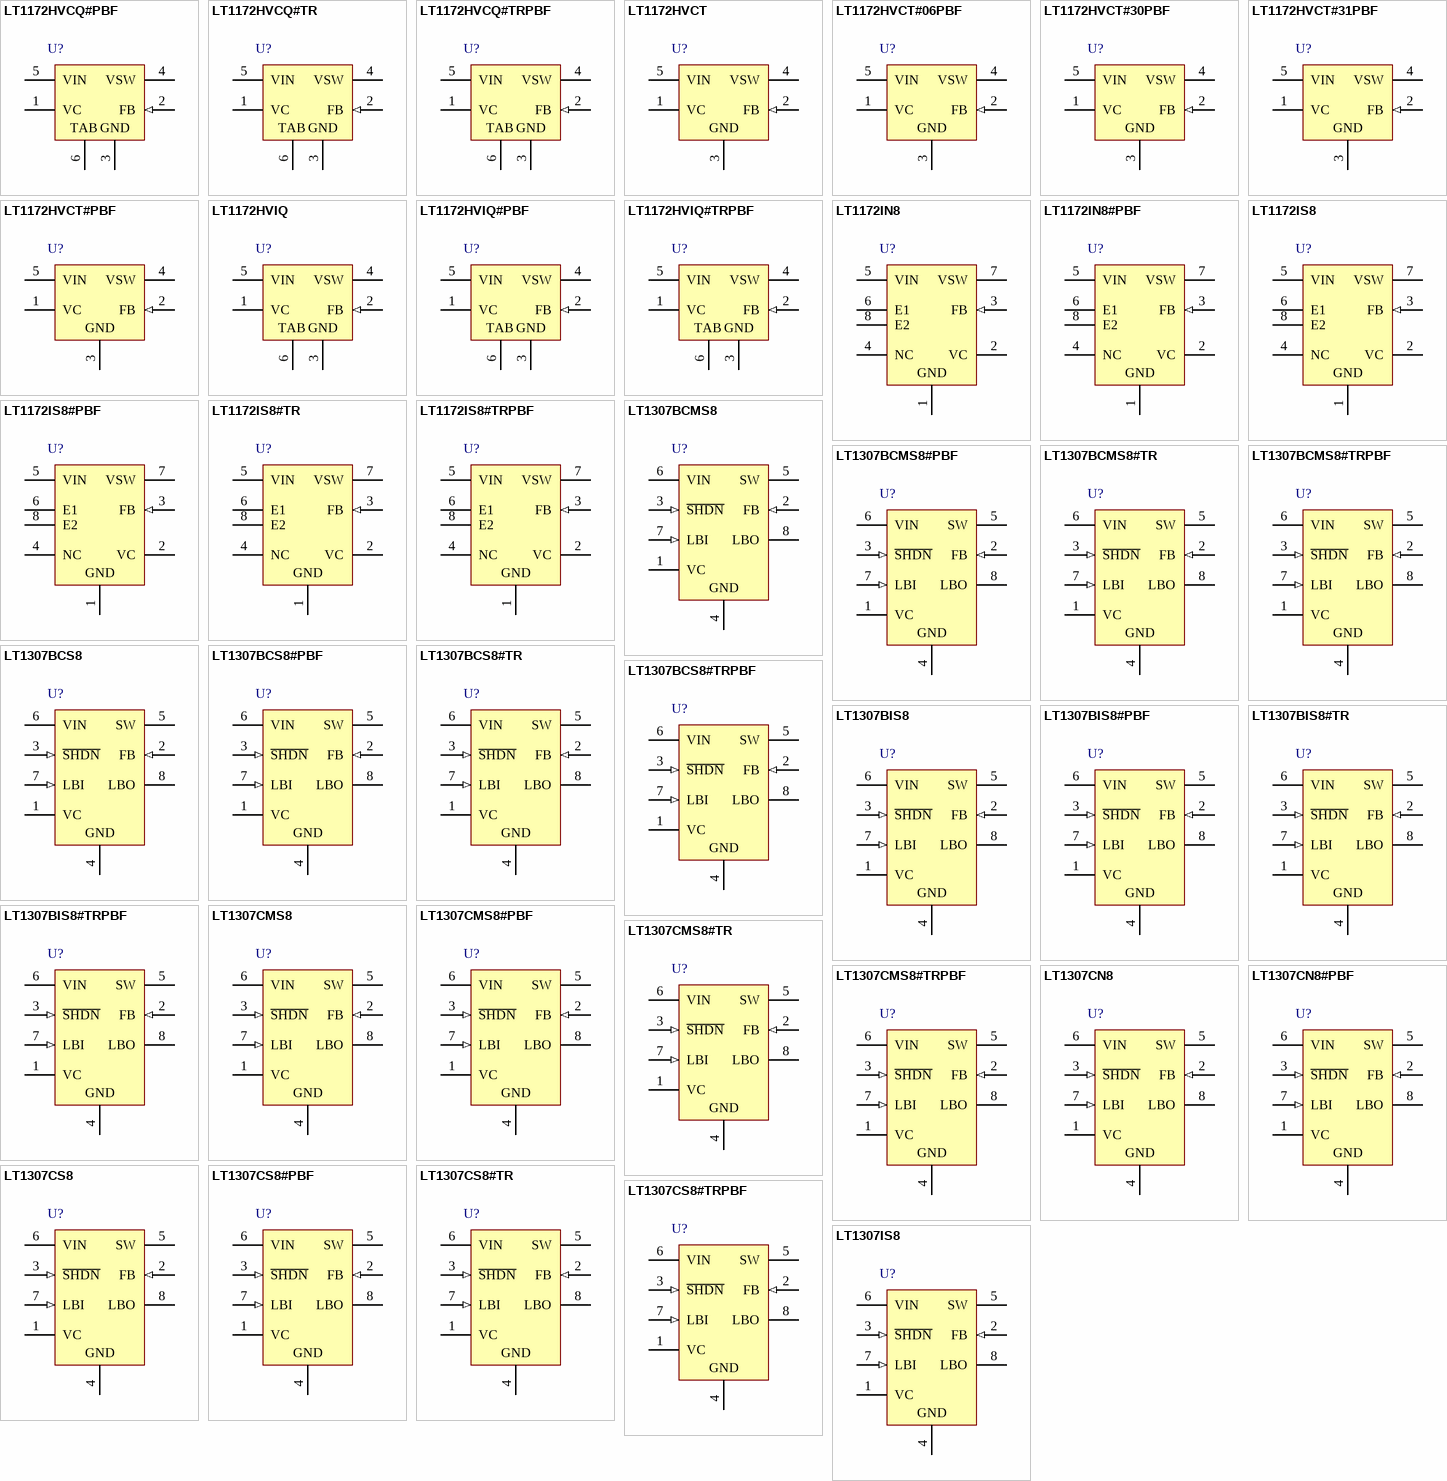
[diagram p4: symbols LT1172HVCQ#PBF to LT1307IS8]

## LT1172HVCQ#PBF
designator U?
100 kHz, 1.25 A, High Efficiency Switching Regulator, 5-pin DPAK (Q-5), 0 to 100 degC, Pb-Free; Manufacturer: Linear Technology; PartNumber: LT1172HVCQ#PBF; Number of Outputs: 1; PackageReference: Q-5; PackageDescription: 5-Pin Plastic DD Pak, Body 10.2235 x 8.89 mm, Pitch 1.702 mm; Supplier 1: Digi-Key; Supplier Part Number 1: LT1172HVCQ#PBF-ND; RoHS: TRUE
footprint LT-Q-5_N (DPAK, 5-Leads, Body 10.22x8.89mm, Pitch 1.702mm, IPC Medium Density)
footprint LT-Q-5_L (DPAK, 5-Leads, Body 10.22x8.89mm, Pitch 1.702mm, IPC High Density)
footprint LT-Q-5_M (DPAK, 5-Leads, Body 10.22x8.89mm, Pitch 1.702mm, IPC Low Density)
pins: 1 VC, 2 FB (in), 3 GND (power), 4 VSW (power), 5 VIN (power), 6 TAB

## LT1172HVCQ#TR
designator U?
100 kHz, 1.25 A, High Efficiency Switching Regulator, 5-pin DPAK (Q-5), 0 to 100 degC, Tape and Reel; Manufacturer: Linear Technology; PartNumber: LT1172HVCQ#TR; Number of Outputs: 1; PackageReference: Q-5; PackageDescription: 5-Pin Plastic DD Pak, Body 10.2235 x 8.89 mm, Pitch 1.702 mm; Supplier 1: Digi-Key; Supplier Part Number 1: LT1172HVCQ#TR-ND; RoHS: FALSE
footprint LT-Q-5_N (DPAK, 5-Leads, Body 10.22x8.89mm, Pitch 1.702mm, IPC Medium Density)
footprint LT-Q-5_L (DPAK, 5-Leads, Body 10.22x8.89mm, Pitch 1.702mm, IPC High Density)
footprint LT-Q-5_M (DPAK, 5-Leads, Body 10.22x8.89mm, Pitch 1.702mm, IPC Low Density)
pins: 1 VC, 2 FB (in), 3 GND (power), 4 VSW (power), 5 VIN (power), 6 TAB

## LT1172HVCQ#TRPBF
designator U?
100 kHz, 1.25 A, High Efficiency Switching Regulator, 5-pin DPAK (Q-5), 0 to 100 degC, Pb-Free, Tape and Reel; Manufacturer: Linear Technology; PartNumber: LT1172HVCQ#TRPBF; Number of Outputs: 1; PackageReference: Q-5; PackageDescription: 5-Pin Plastic DD Pak, Body 10.2235 x 8.89 mm, Pitch 1.702 mm; Supplier 1: Digi-Key; Supplier Part Number 1: LT1172HVCQ#TRPBF-ND; RoHS: TRUE
footprint LT-Q-5_N (DPAK, 5-Leads, Body 10.22x8.89mm, Pitch 1.702mm, IPC Medium Density)
footprint LT-Q-5_L (DPAK, 5-Leads, Body 10.22x8.89mm, Pitch 1.702mm, IPC High Density)
footprint LT-Q-5_M (DPAK, 5-Leads, Body 10.22x8.89mm, Pitch 1.702mm, IPC Low Density)
pins: 1 VC, 2 FB (in), 3 GND (power), 4 VSW (power), 5 VIN (power), 6 TAB

## LT1172HVCT
designator U?
100 kHz, 1.25 A, High Efficiency Switching Regulator, 5-pin FM (T-5), 0 to 100 degC; Manufacturer: Linear Technology; PartNumber: LT1172HVCT; Number of Outputs: 1; PackageReference: T-5; PackageDescription: 5-Pin Plastic TO-220 (Standard), Body 10.224 x 8.89 mm, Pitch 1.7 mm; RoHS: FALSE
footprint LT-T-5-S (FM, 5-Leads, Body 10.55x4.6mm, Pitch 1.7mm)
pins: 1 VC, 2 FB (in), 3 GND (power), 4 VSW (power), 5 VIN (power)

## LT1172HVCT#06PBF
designator U?
100 kHz, 1.25 A, High Efficiency Switching Regulator, 5-pin FM (T-5), 0 to 100 degC, Pb-Free; Manufacturer: Linear Technology; PartNumber: LT1172HVCT#06PBF; Number of Outputs: 1; PackageReference: T-5; PackageDescription: 5-Pin Plastic TO-220 (Standard), Body 10.224 x 8.89 mm, Pitch 1.7 mm; Supplier 1: Digi-Key; Supplier Part Number 1: LT1172HVCT#06PBF-ND; RoHS: TRUE
footprint LT-T-5-S (FM, 5-Leads, Body 10.55x4.6mm, Pitch 1.7mm)
pins: 1 VC, 2 FB (in), 3 GND (power), 4 VSW (power), 5 VIN (power)

## LT1172HVCT#30PBF
designator U?
100 kHz, 1.25 A, High Efficiency Switching Regulator, 5-pin FM (T-5), 0 to 100 degC, Pb-Free; Manufacturer: Linear Technology; PartNumber: LT1172HVCT#30PBF; Number of Outputs: 1; PackageReference: T-5; PackageDescription: 5-Pin Plastic TO-220 (Standard), Body 10.224 x 8.89 mm, Pitch 1.7 mm; Supplier 1: Digi-Key; Supplier Part Number 1: LT1172HVCT#30PBF-ND; RoHS: TRUE
footprint LT-T-5-S (FM, 5-Leads, Body 10.55x4.6mm, Pitch 1.7mm)
pins: 1 VC, 2 FB (in), 3 GND (power), 4 VSW (power), 5 VIN (power)

## LT1172HVCT#31PBF
designator U?
100 kHz, 1.25 A, High Efficiency Switching Regulator, 5-pin FM (T-5), 0 to 100 degC, Pb-Free; Manufacturer: Linear Technology; PartNumber: LT1172HVCT#31PBF; Number of Outputs: 1; PackageReference: T-5; PackageDescription: 5-Pin Plastic TO-220 (Standard), Body 10.224 x 8.89 mm, Pitch 1.7 mm; Supplier 1: Digi-Key; Supplier Part Number 1: LT1172HVCT#31PBF-ND; RoHS: TRUE
footprint LT-T-5-S (FM, 5-Leads, Body 10.55x4.6mm, Pitch 1.7mm)
pins: 1 VC, 2 FB (in), 3 GND (power), 4 VSW (power), 5 VIN (power)

## LT1172HVCT#PBF
designator U?
100 kHz, 1.25 A, High Efficiency Switching Regulator, 5-pin FM (T-5), 0 to 100 degC, Pb-Free; Manufacturer: Linear Technology; PartNumber: LT1172HVCT#PBF; Number of Outputs: 1; PackageReference: T-5; PackageDescription: 5-Pin Plastic TO-220 (Standard), Body 10.224 x 8.89 mm, Pitch 1.7 mm; Supplier 1: Digi-Key; Supplier Part Number 1: LT1172HVCT#PBF-ND; RoHS: TRUE
footprint LT-T-5-S (FM, 5-Leads, Body 10.55x4.6mm, Pitch 1.7mm)
pins: 1 VC, 2 FB (in), 3 GND (power), 4 VSW (power), 5 VIN (power)

## LT1172HVIQ
designator U?
100 kHz, 1.25 A, High Efficiency Switching Regulator, 5-pin DPAK (Q-5), -40 to 100 degC; Manufacturer: Linear Technology; PartNumber: LT1172HVIQ; Number of Outputs: 1; PackageReference: Q-5; PackageDescription: 5-Pin Plastic DD Pak, Body 10.2235 x 8.89 mm, Pitch 1.702 mm; Supplier 1: Digi-Key; Supplier Part Number 1: LT1172HVIQ-ND; RoHS: FALSE
footprint LT-Q-5_N (DPAK, 5-Leads, Body 10.22x8.89mm, Pitch 1.702mm, IPC Medium Density)
footprint LT-Q-5_L (DPAK, 5-Leads, Body 10.22x8.89mm, Pitch 1.702mm, IPC High Density)
footprint LT-Q-5_M (DPAK, 5-Leads, Body 10.22x8.89mm, Pitch 1.702mm, IPC Low Density)
pins: 1 VC, 2 FB (in), 3 GND (power), 4 VSW (power), 5 VIN (power), 6 TAB

## LT1172HVIQ#PBF
designator U?
100 kHz, 1.25 A, High Efficiency Switching Regulator, 5-pin DPAK (Q-5), -40 to 100 degC, Pb-Free; Manufacturer: Linear Technology; PartNumber: LT1172HVIQ#PBF; Number of Outputs: 1; PackageReference: Q-5; PackageDescription: 5-Pin Plastic DD Pak, Body 10.2235 x 8.89 mm, Pitch 1.702 mm; Supplier 1: Digi-Key; Supplier Part Number 1: LT1172HVIQ#PBF-ND; RoHS: TRUE
footprint LT-Q-5_N (DPAK, 5-Leads, Body 10.22x8.89mm, Pitch 1.702mm, IPC Medium Density)
footprint LT-Q-5_L (DPAK, 5-Leads, Body 10.22x8.89mm, Pitch 1.702mm, IPC High Density)
footprint LT-Q-5_M (DPAK, 5-Leads, Body 10.22x8.89mm, Pitch 1.702mm, IPC Low Density)
pins: 1 VC, 2 FB (in), 3 GND (power), 4 VSW (power), 5 VIN (power), 6 TAB

## LT1172HVIQ#TRPBF
designator U?
100 kHz, 1.25 A, High Efficiency Switching Regulator, 5-pin DPAK (Q-5), -40 to 100 degC, Pb-Free, Tape and Reel; Manufacturer: Linear Technology; PartNumber: LT1172HVIQ#TRPBF; Number of Outputs: 1; PackageReference: Q-5; PackageDescription: 5-Pin Plastic DD Pak, Body 10.2235 x 8.89 mm, Pitch 1.702 mm; Supplier 1: Digi-Key; Supplier Part Number 1: LT1172HVIQ#TRPBF-ND; RoHS: TRUE
footprint LT-Q-5_N (DPAK, 5-Leads, Body 10.22x8.89mm, Pitch 1.702mm, IPC Medium Density)
footprint LT-Q-5_L (DPAK, 5-Leads, Body 10.22x8.89mm, Pitch 1.702mm, IPC High Density)
footprint LT-Q-5_M (DPAK, 5-Leads, Body 10.22x8.89mm, Pitch 1.702mm, IPC Low Density)
pins: 1 VC, 2 FB (in), 3 GND (power), 4 VSW (power), 5 VIN (power), 6 TAB

## LT1172IN8
designator U?
100 kHz, 1.25 A, High Efficiency Switching Regulator, 8-pin DIP (N8-8), -40 to 100 degC; Manufacturer: Linear Technology; PartNumber: LT1172IN8; Number of Outputs: 1; PackageReference: N8-8; PackageDescription: 8-Pin PDIP, Body 10.16 x 6.48 mm, Pitch 2.54 mm; Supplier 1: Digi-Key; Supplier Part Number 1: LT1172IN8-ND; RoHS: FALSE
footprint LT-N8-8 (DIP, 8-Leads, Body 10.15x6.85mm, Pitch 2.54mm)
pins: 1 GND (power), 2 VC, 3 FB (in), 4 NC, 5 VIN (power), 6 E1, 7 VSW (power), 8 E2

## LT1172IN8#PBF
designator U?
100 kHz, 1.25 A, High Efficiency Switching Regulator, 8-pin DIP (N8-8), -40 to 100 degC, Pb-Free; Manufacturer: Linear Technology; PartNumber: LT1172IN8#PBF; Number of Outputs: 1; PackageReference: N8-8; PackageDescription: 8-Pin PDIP, Body 10.16 x 6.48 mm, Pitch 2.54 mm; Supplier 1: Digi-Key; Supplier Part Number 1: LT1172IN8#PBF-ND; RoHS: TRUE
footprint LT-N8-8 (DIP, 8-Leads, Body 10.15x6.85mm, Pitch 2.54mm)
pins: 1 GND (power), 2 VC, 3 FB (in), 4 NC, 5 VIN (power), 6 E1, 7 VSW (power), 8 E2